# Altium schematic symbol library 二极管.SCHLIB: 3 symbols
Pins are listed as number, name and electrical type; pins without a type are passive.

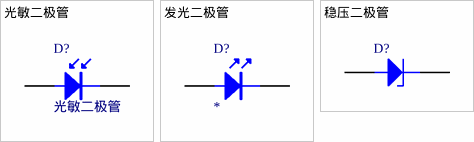
[diagram p0: symbols 光敏二极管 to 稳压二极管]

## 光敏二极管
designator D?
Photosensitive Diode
footprint 0805D
footprint DIODE0.4A
pins: 1 A, 2 K

## 发光二极管
designator D?
footprint DIODE0.4A
footprint 0805D
pins: A 1, K 2

## 稳压二极管
designator D?  (value not drawn)
Zener Diode
footprint 0805D
footprint DIODE0.4A
pins: 1 A, 2 K